# Altium schematic symbol library DIODE_SHOTTKY.SchLib: 1 symbol
Pins are listed as number, name and electrical type; pins without a type are passive.

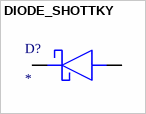
[diagram p0: symbol DIODE_SHOTTKY]

## DIODE_SHOTTKY
designator D?
Value: *
pins: 1 K, 2 A